# EAGLE library part MAX17048 (library balto)
3μA 1-Cell/2-Cell Fuel Gauge with ModelGauge
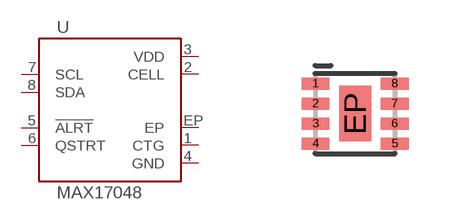
[diagram p62: symbol with the pads of TDFN8L; footprint TDFN8L]

Designator prefix U

## MAX17048  [TDFN8L]
1  CTG
2  CELL
3  VDD
4  GND
5  !ALRT
6  QSTRT
7  SCL
8  SDA
EP  EP

## Footprint TDFN8L (pad centres in mm)
TDFN8L
smd 0.7 x 0.3: 1 -0.99,0.75; 2 -0.99,0.25; 3 -0.99,-0.25; 4 -0.99,-0.75; 5 0.99,-0.75; 6 0.99,-0.25; 7 0.99,0.25; 8 0.99,0.75
smd 0.8 x 1.38: EP 0,0